# Altium footprint library VioletofSun.PcbLib: 319 footprints (part 12 of 20)
Each footprint in its own frame and in the unit in brackets; x right, y up, seen from the top. Pads: shape width x height; smd on the part's side, far side on the other; paste and mask are expansions set on the pad; w line width, h text height; cw(c..) or ccw(c..) is an arc to the next point about the centre after c.
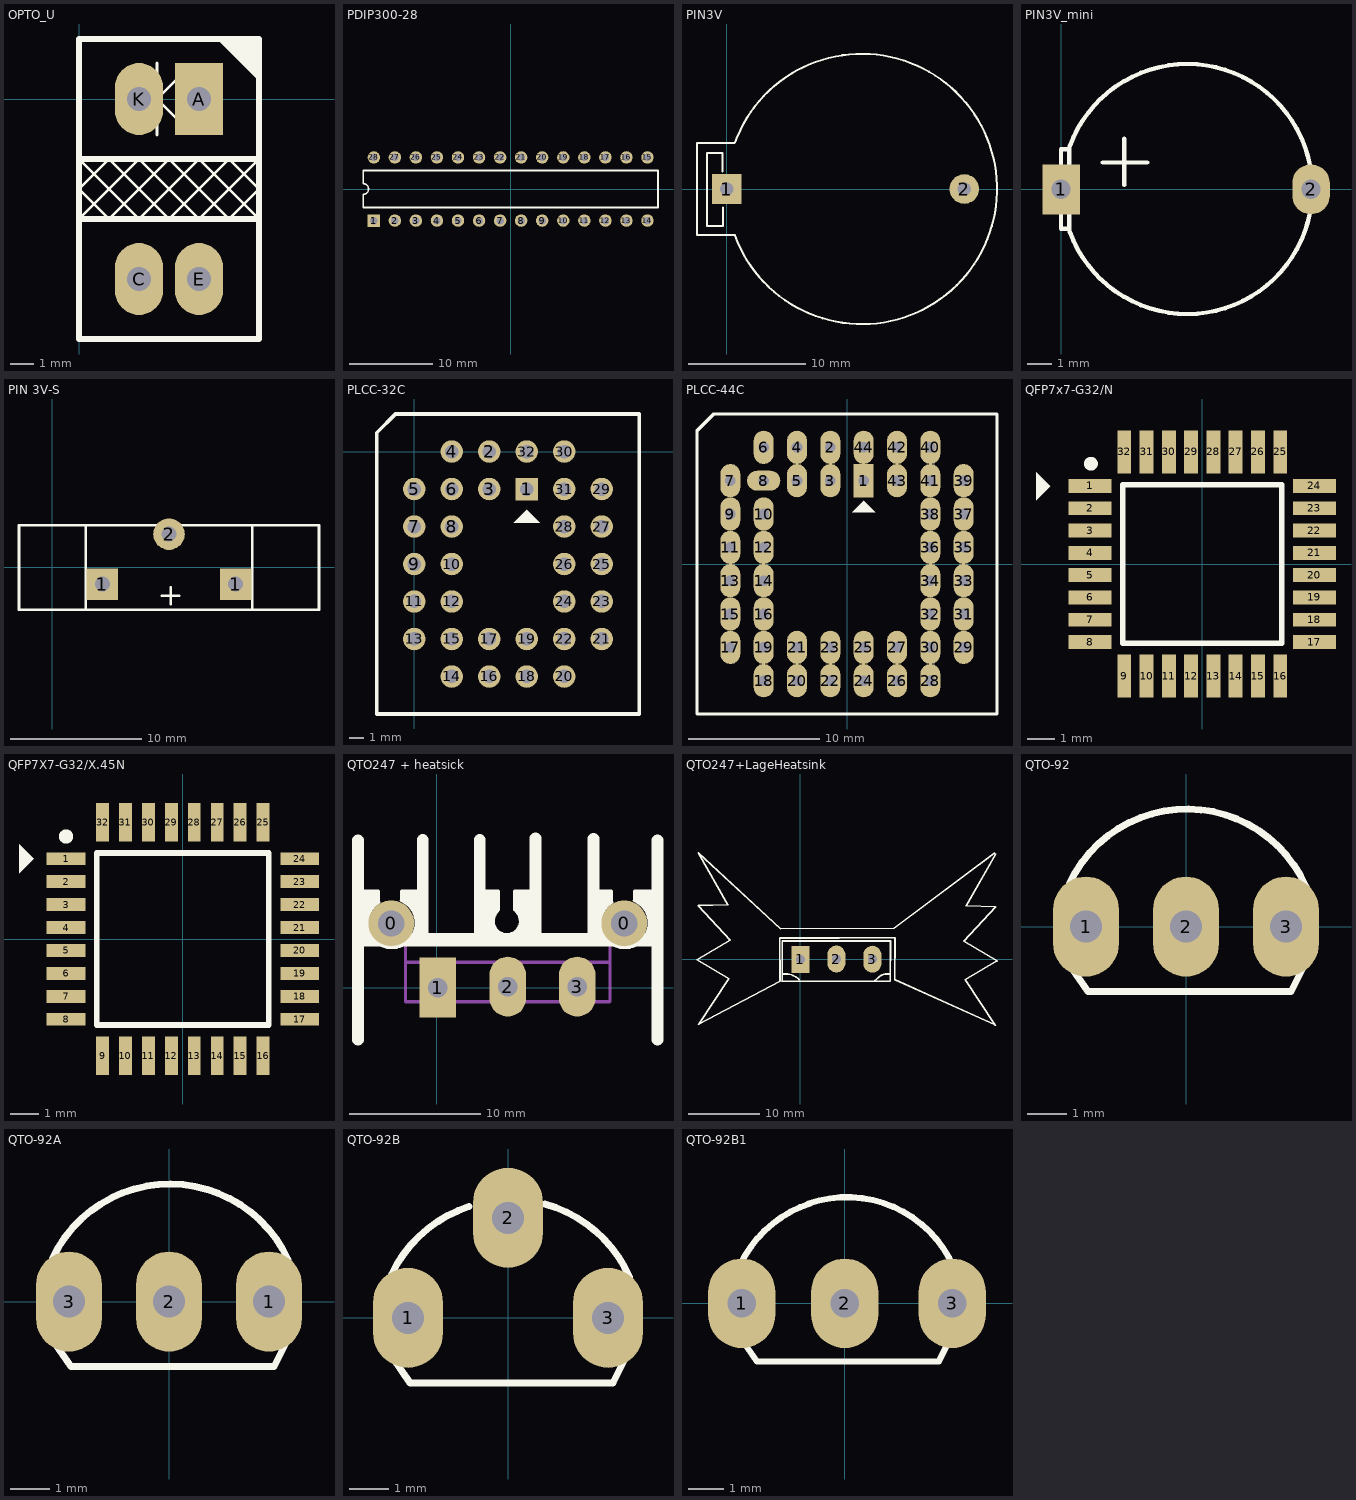
[diagram p11: the footprints below, top view; thin cyan lines are the x and y axes]

## OPTO_U [mil] "Opto hinh chu U"
height 104.33
pads (4):
  rect 80x120 hole 40: A(200,0)
  oval 80x120 hole 40: C(100,-300) E(200,-300) K(100,0)
Top Overlay:
  region: 297.5,97.5 232.5,97.5 297.5,32.5
  lines w5: 0,-200 50,-150 100,-100 200,-200 230,-170 300,-100 300,-200 200,-100 100,-200 90,-190 60,-160 0,-100 ; 130,-60 130,60 ; 180,-50 130,0 180,50 ; 180,-50 180,50 ; 180,-50 180,50 ; 0,-150 50,-100 150,-200 250,-100 300,-150 250,-200 150,-100 50,-200 30,-180 0,-150
  lines w10: 0,-200 300,-200 ; 0,-150 0,-110 ; 0,-100 300,-100 ; 300,-150 300,-140 ; 0,-400 0,100 300,100 300,-400 0,-400
3D body: height 374.02, standoff -100, extent 43.46,-346.85 260,46.85

## PCBComponent_1 [mil]

## PDIP300-28 [mm] "DIP, Plastic, Skinny; 28 Leads; Row Spacing 7.62 mm; Pitch 2.54 mm"
height 4.07
pads (28):
  rect 1.5x1.5 hole 0.9: 1(-16.51,-3.81)
  round 1.5 hole 0.9: 2(-13.97,-3.81) 3(-11.43,-3.81) 4(-8.89,-3.81) 5(-6.35,-3.81) 6(-3.81,-3.81) 7(-1.27,-3.81) 8(1.27,-3.81) 9(3.81,-3.81) 10(6.35,-3.81) 11(8.89,-3.81) 12(11.43,-3.81) 13(13.97,-3.81) 14(16.51,-3.81) 15(16.51,3.81) 16(13.97,3.81) 17(11.43,3.81) 18(8.89,3.81) 19(6.35,3.81) 20(3.81,3.81) 21(1.27,3.81) 22(-1.27,3.81) 23(-3.81,3.81) 24(-6.35,3.81) 25(-8.89,3.81) 26(-11.43,3.81) 27(-13.97,3.81) 28(-16.51,3.81)
Top Overlay:
  lines w0.2: -17.78,-2.225 -17.78,-0.635 ccw(c-17.78,0) -17.78,0.635 -17.78,2.225 17.78,2.225 17.78,-2.225 -17.78,-2.225

## PIN3V [mil] "Socket PIN 3V"
pads (2):
  rect 100x100 hole 45: 1(0,0)
  round 100 hole 45: 2(800,0)
Top Overlay:
  lines w7: -14,59 -14,121 -66,121 -66,-124 -13,-124 -13,-63 ; 26.33,155 -100,155 -100,-155 27.93,-155 ; 27.6,156.07 cw(c455,0) 27.93,-156.97

## PIN3V_mini [mil] "Socket PIN 3V"
pads (2):
  rect 60x80 hole 31: 1(0,0)
  oval 60x80 hole 31: 2(400,0)
Top Overlay:
  lines w7: 11,64 0,64 0,-63 13,-63 ; 13,-64 13,65 ; 14,-67.81 ccw(c201.94,0.6) 14,69 ; 67,43 138,43 ; 101,7 101,81

## PIN 3V-S [mil] "Socket PIN 3V"
pads (3):
  rect 95x95 hole 45: 1(150,-50) 1(550,-50)
  round 95 hole 45: 2(350,100)
Top Overlay:
  lines w8: 100,-127 100,127 ; 329,-85 380,-85 ; 355,-110 355,-60 ; 600,-127 600,127 ; -100,-127 800,-127 800,127 -100,127 -100,-127

## PLCC-32C [mil] "Socket PLCC32R"
height 200
pads (32):
  rect 60x60 hole 36: 1(300,-100)
  round 60 hole 36: 2(200,0) 3(200,-100) 4(100,0) 5(0,-100) 6(100,-100) 7(0,-200) 8(100,-200) 9(0,-300) 10(100,-300) 11(0,-400) 12(100,-400) 13(0,-500) 14(100,-600) 15(100,-500) 16(200,-600) 17(200,-500) 18(300,-600) 19(300,-500) 20(400,-600) 21(500,-500) 22(400,-500) 23(500,-400) 24(400,-400) 25(500,-300) 26(400,-300) 27(500,-200) 28(400,-200) 29(500,-100) 30(400,0) 31(400,-100) 32(300,0)
Top Overlay:
  region: 300,-155 265,-190 335,-190
  lines w10: -100,-700 -100,50 -50,100 600,100 600,-700 -100,-700

## PLCC-44C [mil] "QPC-44C"
height 200
pads (44):
  rect 60x100 hole 32: 1(50,250)
  oval 60x100 hole 32: 2(-50,350) 3(-50,250) 4(-150,350) 5(-150,250) 6(-250,350) 7(-350,250) 9(-350,150) 10(-250,150) 11(-350,50) 12(-250,50) 13(-350,-50) 14(-250,-50) 15(-350,-150) 16(-250,-150) 17(-350,-250) 18(-250,-350) 19(-250,-250) 20(-150,-350) 21(-150,-250) 22(-50,-350) 23(-50,-250) 24(50,-350) 25(50,-250) 26(150,-350) 27(150,-250) 28(250,-350) 29(350,-250) 30(250,-250) 31(350,-150) 32(250,-150) 33(350,-50) 34(250,-50) 35(350,50) 36(250,50) 37(350,150) 38(250,150) 39(350,250) 40(250,350) 41(250,250) 42(150,350) 43(150,250) 44(50,350)
  oval 100x60 hole 32: 8(-250,250)
Top Overlay:
  region: 50,190 15,155 85,155
  lines w10: -450,-450 -450,400 -400,450 450,450 450,-450 -450,-450

## QFP7x7-G32/N [mm] "32-Pin Plastic Thin Quad Flat Pack (TFQP)"
height 1.2
pads (32):
  rect 1.55x0.5 smd: 1(-4.025,2.8) 2(-4.025,2) 3(-4.025,1.2) 4(-4.025,0.4) 5(-4.025,-0.4) 6(-4.025,-1.2) 7(-4.025,-2) 8(-4.025,-2.8) 17(4.025,-2.8) 18(4.025,-2) 19(4.025,-1.2) 20(4.025,-0.4) 21(4.025,0.4) 22(4.025,1.2) 23(4.025,2) 24(4.025,2.8)
  rect 0.5x1.55 smd: 9(-2.8,-4.025) 10(-2,-4.025) 11(-1.2,-4.025) 12(-0.4,-4.025) 13(0.4,-4.025) 14(1.2,-4.025) 15(2,-4.025) 16(2.8,-4.025) 25(2.8,4.025) 26(2,4.025) 27(1.2,4.025) 28(0.4,4.025) 29(-0.4,4.025) 30(-1.2,4.025) 31(-2,4.025) 32(-2.8,4.025)
Top Overlay:
  circle w0.25: c-4,3.6 r0.125
  region: -5.969,3.302 -5.461,2.794 -5.969,2.286
  lines w0.2: -2.85,-2.85 2.85,-2.85 2.85,2.85 -2.85,2.85 -2.85,-2.85

## QFP7X7-G32/X.45N [mm] "QFP; 32 Leads; Body 7 x 7 mm; Pitch 0.8 mm"
height 1.6
pads (32):
  rect 1.35x0.45 smd: 1(-4.075,2.8) 2(-4.075,2) 3(-4.075,1.2) 4(-4.075,0.4) 5(-4.075,-0.4) 6(-4.075,-1.2) 7(-4.075,-2) 8(-4.075,-2.8) 17(4.075,-2.8) 18(4.075,-2) 19(4.075,-1.2) 20(4.075,-0.4) 21(4.075,0.4) 22(4.075,1.2) 23(4.075,2) 24(4.075,2.8)
  rect 0.45x1.35 smd: 9(-2.8,-4.075) 10(-2,-4.075) 11(-1.2,-4.075) 12(-0.4,-4.075) 13(0.4,-4.075) 14(1.2,-4.075) 15(2,-4.075) 16(2.8,-4.075) 25(2.8,4.075) 26(2,4.075) 27(1.2,4.075) 28(0.4,4.075) 29(-0.4,4.075) 30(-1.2,4.075) 31(-2,4.075) 32(-2.8,4.075)
Top Overlay:
  circle w0.25: c-4.075,3.575 r0.125
  region: -5.715,3.302 -5.207,2.794 -5.715,2.286
  lines w0.2: -3,-3 3,-3 3,3 -3,3 -3,-3

## QTO247 + heatsick [mil]
pads (5):
  round 137.8 hole 78.74: 0(-136.34,194) 0(563.66,194)
  rect 110x180 hole 59.06: 1(3,1)
  oval 110x180 hole 59.06: 2(213.66,4) 3(422.32,4)
Top Overlay:
  region: 595,290 595,265 615,245 620,245 630,235 630,225 635,220 635,160 660,160 665,165 650,180 650,290
  region: 475,290 525,290 525,255 520,255 500,235 500,225 490,215 490,180 495,175 495,160 475,160
  region: -225,290 -175,290 -175,255 -180,255 -200,235 -200,225 -210,215 -210,180 -205,175 -205,160 -225,160
  region: -105,290 -105,265 -85,245 -80,245 -70,235 -70,225 -65,220 -65,160 -40,160 -35,165 -50,180 -50,290
  region: 140,290 190,290 190,240 170,220 170,180 190,160 140,160
  region: 230,290 290,290 290,150 280,160 230,160 250,180 250,220 230,240
  lines w10: -225,290 -175,290 -175,260 ; -173.69,257.87 ccw(c-135,195) -105.92,262.86 ; -163.31,220 ccw(c-134.15,190.85) -105,220 ; -105,265 -105,290 -55,290 ; 130,290 185,290 185,235 180,230 ; 181.96,229.73 ccw(c210.85,200.85) 239.73,229.73 ; 240,230 235,235 235,290 280,290 ; 475,290 525,290 525,260 ; 526.31,257.87 ccw(c565,195) 594.08,262.86 ; 595,265 595,290 645,290
  lines w35: -236.34,-156 -236.34,444 ; -42,149 -42,445 ; 129,149 129,445 ; 297,148 297,450 ; 471,148 471,448 ; 663.66,-156 663.66,444
  lines w40: -230,145 655,145
Mechanical 1:
  lines w10: -93.43,76.83 520.75,76.83 ; -93.43,-41.28 -93.43,135.89 520.75,135.89 520.75,-41.28 -93.43,-41.28
3D body: height 1355.51, standoff 150, extent -240.79,-200.67 660.79,445
3D body: height 1060, standoff -360, extent -95,-105 505,75

## QTO247+LageHeatsink [mil]
pads (3):
  rect 100x150 hole 50: 1(0,-1)
  oval 100x150 hole 50: 2(200,1) 3(400,0)
Top Overlay:
  lines w10: -102,-121 -101,-120 -101,102 501,102 500,-122 -101,-122 -100,-121 ; -100,-82 -80.43,-82 cw(c-80.43,-184.43) -8,-112 ; 208,119 526,119 524,-113 1082,-364 ; 214,118 -115,118 -113,-122 -566,-361 -398,-108 -575,-3 -391,106 -568,298 -403,303 -568,592 -111,170 520,172 1078,590 ; 415,-119 ccw(c415,-116.59) 416.71,-118.29 434,-101 cw(c479.87,-146.87) 479.87,-82 499,-82 ; 1084,-367 916,-114 1093,-9 909,100 1086,292 921,297 1086,586
3D body: height 1146.77, standoff -470.16, extent -108.98,-117 518.98,81.03
3D body: height 1100, standoff 100, extent -571,-365 1079,597

## QTO-92 [mil] "TO-92"
height 200
pads (3):
  oval 66x100 hole 32: 1(-100,0) 2(0,0) 3(100,0)
Top Overlay:
  lines w7: -116.52,43.21 cw(c0.97,-12.43) 119.94,39.97 ; -115.34,-40.24 -98,-65 105,-65 118,-39
3D body: height 385.04, standoff -59.79, extent -108.87,-65.56 108.87,95

## QTO-92A [mil] "TO-92"
height 200
pads (3):
  oval 66x100 hole 32: 1(100,0) 2(0,0) 3(-100,0)
Top Overlay:
  lines w7: -116.52,43.21 cw(c0.97,-12.43) 119.08,41.88 ; -115.34,-40.24 -98,-65 105,-65 118,-39
3D body: height 385.04, standoff -59.79, extent -110,-60.56 107.74,100

## QTO-92B [mil] "TO-92"
height 200
pads (3):
  oval 70x100 hole 32: 1(-100,0) 2(0,100) 3(100,0)
Top Overlay:
  lines w7: -116.52,43.21 cw(c0.97,-12.43) -38.82,111.34 ; -115.34,-40.24 -98,-65 105,-65 118,-39 ; 36.81,113.84 cw(c2.42,-11.53) 121.49,40.65

## QTO-92B1 [mil] "TO-92"
height 200
pads (3):
  oval 75x100 hole 32: 1(-115,0) 2(0,0) 3(120,0)
Top Overlay:
  lines w7: -116.52,43.21 cw(c0.97,-12.43) -38.82,111.34 ; -115.34,-40.24 -98,-65 105,-65 118,-39 ; -40.42,111.21 cw(c2.42,-11.53) 121.49,40.65
3D body: height 385.04, standoff -59.79, extent -112.74,-65.56 105,95